# Altium schematic symbol library TRANS-PNP-EBC.SCHLIB: 1 symbol
Pins are listed as number, name and electrical type; pins without a type are passive.

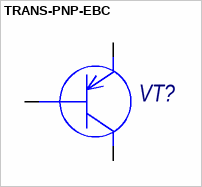
[diagram p0: symbol TRANS-PNP-EBC]

## TRANS-PNP-EBC
designator VT?
pins: 1 E, 2 B, 3 C